# Altium schematic symbol library LimeMicroAltiumLib.SchLib: 659 symbols (part 18 of 22)
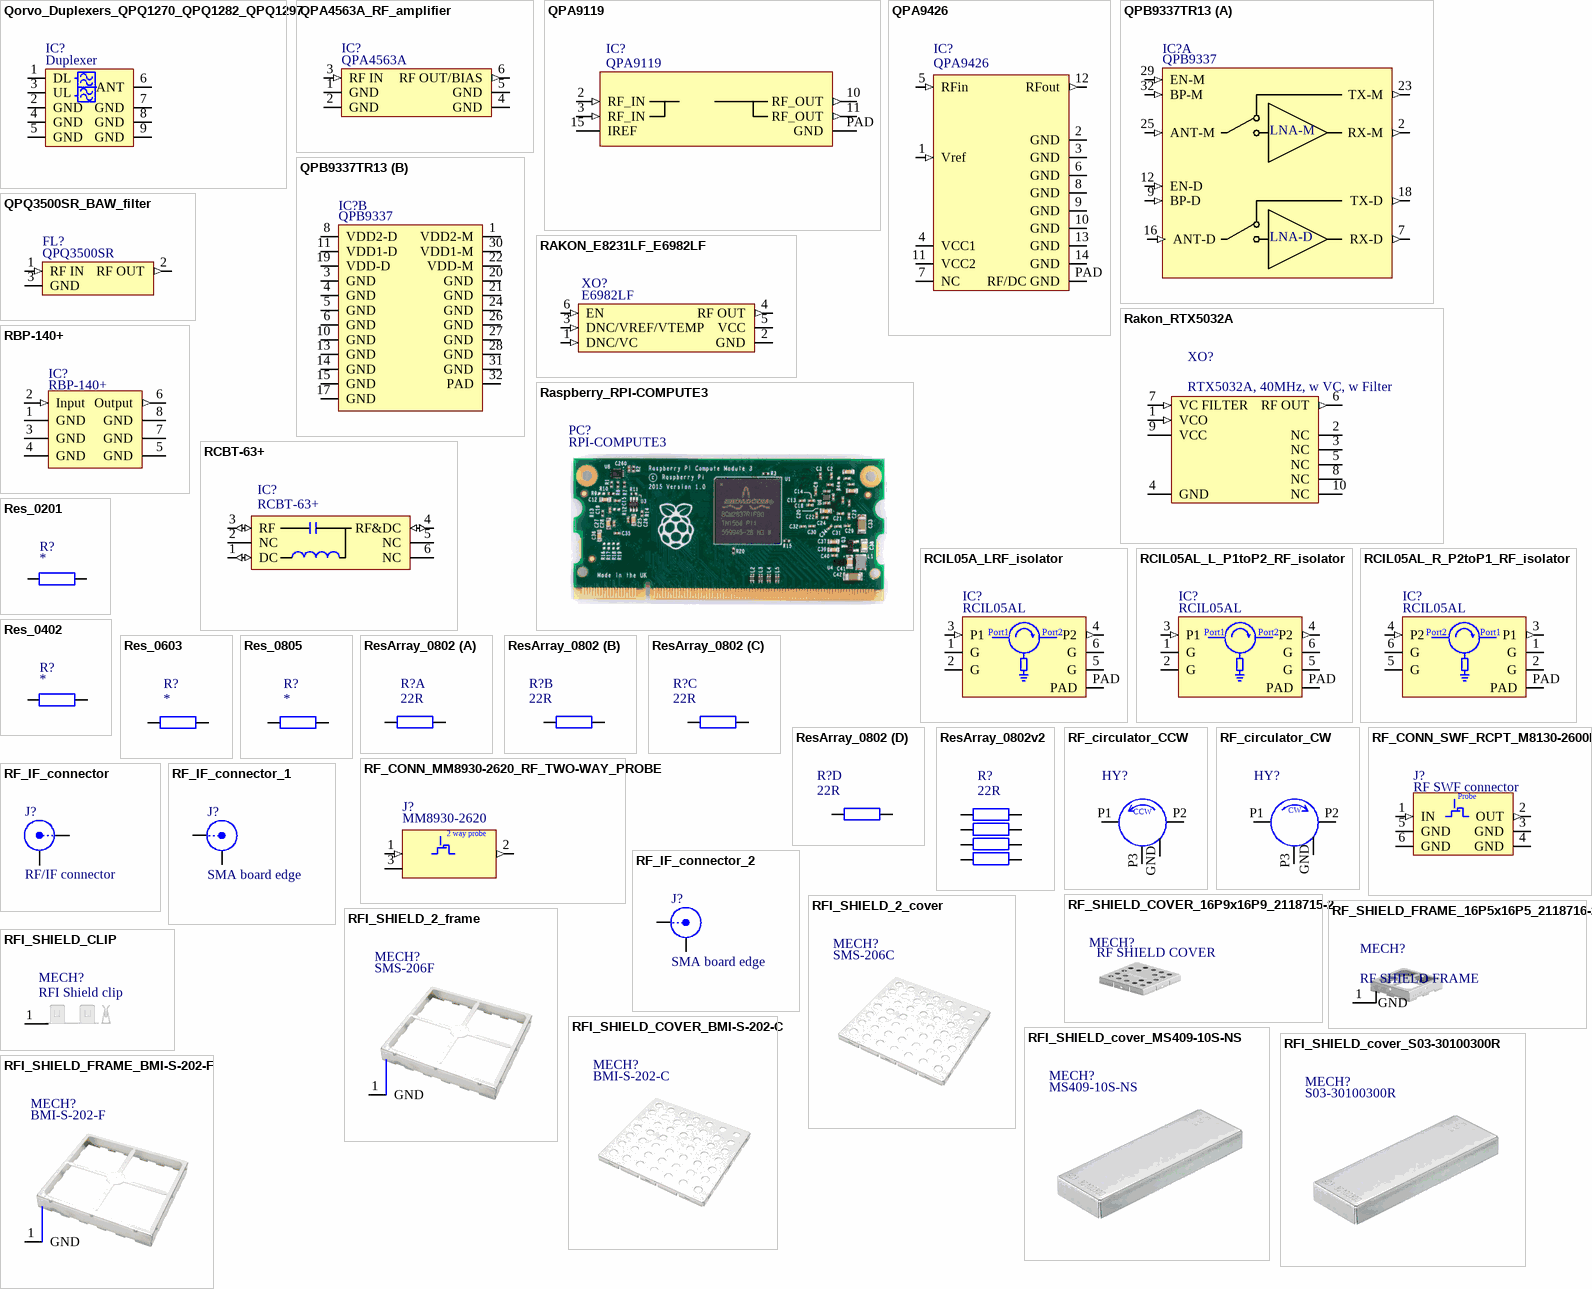
[diagram p95: symbols Qorvo_Duplexers_QPQ1270_QPQ1282_QPQ1297 to RFI_SHIELD_FRAME_BMI-S-202-F]

## RFI_SHIELD_CLIP
designator MECH?, comment RFI Shield clip
Manufacturer Part Number 1: S0971-46R; Manufacturer: HARWIN; Part Description: RFI SHIELD CLIP MINI TIN SMD; SVHC: No SVHC (15-Jun-2015); Supplier 1: Farnell; Supplier: Farnell; Length: 5.8; Clip Type: RFI Shield Clip; Clip Diameter: -; Product Range: -; Mounting Hole Dia: -; RoHS: YES; Supplier Part Number 1: 2361677
footprint RFI_SHIELD_CLPS_MINI (RFI SHIELD CLIP MINI TIN SMD, S0971-46R)
pins: 1 GND

## RFI_SHIELD_COVER_BMI-S-202-C
designator MECH?, comment BMI-S-202-C
Part Description: RF Shield Cover 0.668" (16.96mm) X 0.668" (16.96mm) Vent Holes in Pattern Snap Fit; Manufacturer: Laird; ComponentLink1URL: https://www.leadertechinc.com/assets/files/EngineeringDrawings/SMS-206.PDF; ComponentLink1Description: https://www.leadertechinc.com/assets/files/EngineeringDrawings/SMS-206.PDF; Supplier 1: Digi-Key; Supplier Part Number 1: 903-1014-ND; Manufacturer Part Number 1: BMI-S-202-C; Stock 1: 245970; Pricing 1: 1=1,68000, 10=1,51300, 25=1,42760, 100=1,21620, 250=1,14200, 500=0,99924, 1000=0,82795, 2500=0,77085, 5000=0,74230 (USD); RoHS: Yes; Color: Grey; Material: Aluminium; Package Quantity: 1400; Packaging: Bulk; Series: SMT 2 Piece; Length: 16.5mm; Width: 16.5mm; Depth: 3.6mm; ComponentLink2URL: http://www.farnell.com/datasheets/1965028.pdf?src-supplier=Farnell; ComponentLink2Description: http://www.farnell.com/datasheets/1965028.pdf?src-supplier=Farnell; ComponentLink3URL: http://www.mouser.com/ds/2/223/Laird_BMIS_201_210-201562.pdf?src-supplier=Mouser; ComponentLink3Description: http://www.mouser.com/ds/2/223/Laird_BMIS_201_210-201562.pdf?src-supplier=Mouser; ComponentLink4URL: http://www.farnell.com/datasheets/1965028.pdf?src-supplier=Newark; ComponentLink4Description: http://www.farnell.com/datasheets/1965028.pdf?src-supplier=Newark; ComponentLink5URL: http://www.farnell.com/datasheets/1965028.pdf?src-supplier=Element14; ComponentLink5Description: http://www.farnell.com/datasheets/1965028.pdf?src-supplier=Element14; ComponentLink6URL: http://assets.lairdtech.com/home/brandworld/files/Board%20Level%20Shields%20Catalog%20Download.pdf?src-supplier=Digi-Key; ComponentLink6Description: http://assets.lairdtech.com/home/brandworld/files/Board%20Level%20Shields%20Catalog%20Download.pdf?src-supplier=Digi-Key; ComponentLink7URL: http://assets.lairdtech.com/home/brandworld/files/Board%20Level%20Shields%20Catalog%20Download.pdf?src-supplier=Quest; ComponentLink7Description: http://assets.lairdtech.com/home/brandworld/files/Board%20Level%20Shields%20Catalog%20Download.pdf?src-supplier=Quest
footprint BMI-S-202-C_RF_SHIELD_COVER

## RFI_SHIELD_cover_MS409-10S-NS
designator MECH?, comment MS409-10S-NS
Part Description: RF Shield Shield, 1-Piece 0.846" (21.50mm) X 1.610" (40.90mm) Non-Vented Surface Mount; Manufacturer: Masach Tech; Manufacturer Lifecycle Status: ACTIVE; Date Code: 2020+; ComponentLink1URL: https://www.leadertechinc.com/assets/files/EngineeringDrawings/SMS-206.PDF; ComponentLink1Description: https://www.leadertechinc.com/assets/files/EngineeringDrawings/SMS-206.PDF; Supplier 1: DigiKey; Supplier Part Number 1: 2333-MS409-10S-NS-ND; Manufacturer Part Number 1: MS409-10S-NS; Stock 1: 337; Pricing 1: 1=2,04, 10=1,503, 42=1,30833, 126=1,20381, 252=1,15274, 504=1,11063, 1008=1,076, 2520=1,03943, 5040=1,01739 (USD); Country of Origin: IL (Israel); Depth: 21.5mm; Export Control Classification Number (ECCN) Code: EAR99; Height: 2.5mm; Harmonized Tariff Schedule (HTS) Code: 73269099; Length: 40.9mm; Lifecycle Status: Production; Material: Nickel-Silver; Mount: Surface Mount; Package Quantity: 42; ComponentLink2URL: https://datasheet.octopart.com:443/MS409-10S-NS-Masach-Tech-datasheet-188963509.pdf?src-supplier=Masach+Tech; ComponentLink2Description: https://datasheet.octopart.com:443/MS409-10S-NS-Masach-Tech-datasheet-188963509.pdf?src-supplier=Masach+Tech; ComponentLink3URL: https://datasheet.octopart.com:443/MS409-10S-NS-Masach-Tech-datasheet-179222798.pdf?src-supplier=Masach+Tech; ComponentLink3Description: https://datasheet.octopart.com:443/MS409-10S-NS-Masach-Tech-datasheet-179222798.pdf?src-supplier=Masach+Tech; ComponentLink4URL: https://datasheet.octopart.com:443/MS409-10S-NS-Masach-Tech-datasheet-155532675.pdf?src-supplier=Masach+Tech; ComponentLink4Description: https://datasheet.octopart.com:443/MS409-10S-NS-Masach-Tech-datasheet-155532675.pdf?src-supplier=Masach+Tech
footprint MS409-10S-NS_RF_SHIELD_COVER

## RFI_SHIELD_cover_S03-30100300R
designator MECH?, comment S03-30100300R
Part Description: RF Shield CAN 0.394" (10.00mm) X 1.181" (30.00mm) Non-Vented Surface Mount; Manufacturer: Harwin; ComponentLink1URL: https://www.leadertechinc.com/assets/files/EngineeringDrawings/SMS-206.PDF; ComponentLink1Description: https://www.leadertechinc.com/assets/files/EngineeringDrawings/SMS-206.PDF; Supplier 1: Digi-Key; Supplier Part Number 1: 952-S03-30100300RCT-ND; Manufacturer Part Number 1: S03-30100300R; Stock 1: 6493; Pricing 1: 1=1,30000, 10=1,15900, 25=1,10040, 100=0,90390, 250=0,84496 (USD); RoHS: No
footprint SHIELD_S03-30100300R (RF Shield CAN 0.394" (10.00mm) X 1.181" (30.00mm) Non-Vented Surface Mount)

## RFI_SHIELD_FRAME_BMI-S-202-F
designator MECH?, comment BMI-S-202-F
Part Description: RF Shield Frame 0.650" (16.50mm) X 0.650" (16.50mm) Surface Mount; Manufacturer: Laird; ComponentLink1URL: https://www.leadertechinc.com/assets/files/EngineeringDrawings/SMS-206.PDF; ComponentLink1Description: https://www.leadertechinc.com/assets/files/EngineeringDrawings/SMS-206.PDF; Supplier 1: Digi-Key; Supplier Part Number 1: 903-1051-1-ND; Manufacturer Part Number 1: BMI-S-202-F; Stock 1: 239502; Pricing 1: 1=1,94000, 10=1,74100, 25=1,64280, 100=1,39970, 250=1,31428 (USD); RoHS: Yes; Mount: Solder; Material: Aluminium; Color: Grey; Package Quantity: 700; Packaging: Tape and Reel; Length: 16.5mm; Width: 16.5mm; Depth: 3.6mm; Reach SVHC Compliant: Unknown; ComponentLink2URL: https://datasheet.ciiva.com/2799/bmi-s-202-2799404.pdf?src-supplier=Digi-Key; ComponentLink2Description: https://datasheet.ciiva.com/2799/bmi-s-202-2799404.pdf?src-supplier=Digi-Key
footprint BMI-S-202-F_RF_SHIELD_FRAME
pins: 1 GND

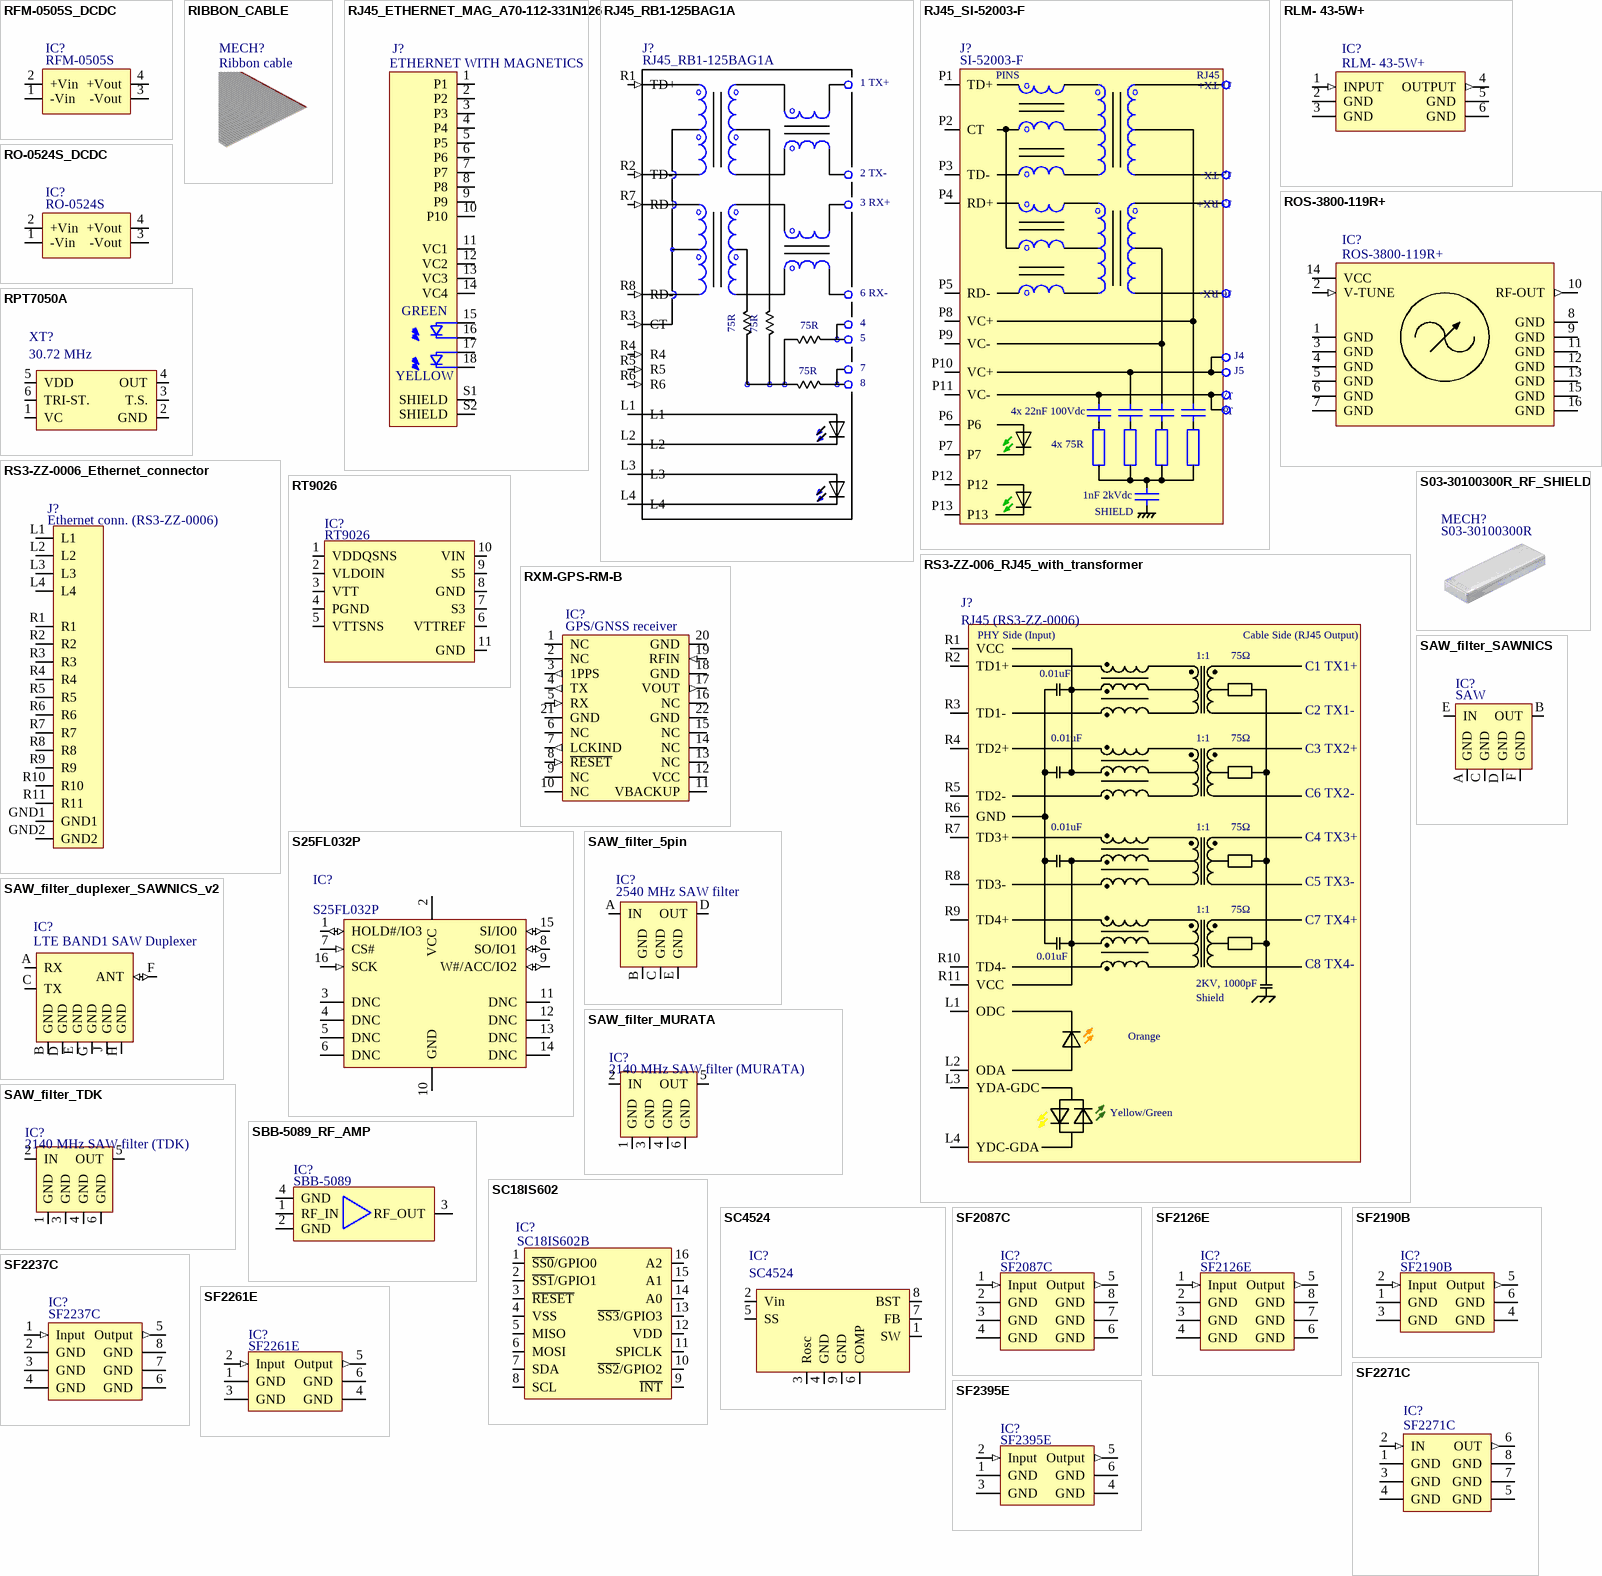
[diagram p65: symbols RFM-0505S_DCDC to SF2395E]

## RFM-0505S_DCDC
designator IC?, comment RFM-0505S
Part Description: Isolated Module DC DC Converter 1 Output 5V    200mA  - 5V Input; Manufacturer: Recom; Max Output Voltage: 5V; ComponentLink1URL: https://datasheet.ciiva.com/11836/0900766b80d62039-11836901.pdf?src-supplier=RSComponents; ComponentLink1Description: https://datasheet.ciiva.com/11836/0900766b80d62039-11836901.pdf?src-supplier=RSComponents; ComponentLink2URL: https://datasheet.ciiva.com/2172/ro-2172489.pdf?src-supplier=Digi-Key; ComponentLink2Description: https://datasheet.ciiva.com/2172/ro-2172489.pdf?src-supplier=Digi-Key; ComponentLink3URL: https://datasheet.ciiva.com/16483/ro-16483065.pdf?src-supplier=Future+Electronics; ComponentLink3Description: https://datasheet.ciiva.com/16483/ro-16483065.pdf?src-supplier=Future+Electronics; ComponentLink4URL: https://datasheet.ciiva.com/8072/ro-8072364.pdf?src-supplier=Element14; ComponentLink4Description: https://datasheet.ciiva.com/8072/ro-8072364.pdf?src-supplier=Element14; Supplier 1: Digi-Key; Manufacturer Part Number 1: RFM-0505S; Stock 1: 11282; Pricing 1: 1=1,40000, 5=1,38000, 10=1,36000, 42=1,32000, 84=1,28000, 126=1,24000, 252=1,20000, 504=1,12000 (USD); RoHS: No; Weight: 1.4g; Length: 11.5mm; Height: 10mm; Width: 6mm; ComponentLink5URL: https://www.recom-power.com/pdf/Econoline/RFM.pdf?src-supplier=Digi-Key; ComponentLink5Description: https://www.recom-power.com/pdf/Econoline/RFM.pdf?src-supplier=Digi-Key; Supplier Part Number 1: 945-3159-ND
footprint RFM-0505S_4SIP (24V 1W DCDC converter module)
pins: 1 -Vin, 2 +Vin, 3 -Vout, 4 +Vout

## RIBBON_CABLE
designator MECH?, comment Ribbon cable  (mechanical)
Manufacturer: 3M; Part Description: Flat Ribbon Cable Gray 40 Conductors 0.050" (1.27mm) Flat Cable 1.00' (304.80mm); Conductor Material: Copper; Wire/Cable Type: Flat,Round; Number of Conductors: 40; Voltage Rating: 300V; Shielding: Unshielded; Impedance: 172R; Wire/Cable Gauge: 28AWG; Pitch: 0.05inch; Cable Length: 91.44m; Cable Pitch: 1.27mm; Supplier 1: Digikey; Manufacturer Part Number 1: 3365/40-300; Stock 1: 20; Pricing 1: 1 = 7,24000, 5 = 5,99200, 10 = 5,52400, 25 = 4,95760, 50 = 4,56720, 100 = 4,19630 (USD); Mount: Cable; Case/Package: 300; Weight: 16.3lb; Color: Grey,Red; Contact Plating: Tin; Insulation Material: Polyvinyl; Min Operating Temperature: -20°C; Max Operating Temperature: 105°C; Packaging: Roll; Length: 300foot; Depth: 50.8mm; ComponentLink1URL: http://multimedia.3m.com/mws/media/22052O/3mtm-round-conductor-flat-cable-050in-3365-series-ts0080.pdf; ComponentLink1Description: http://multimedia.3m.com/mws/media/22052O/3mtm-round-conductor-flat-cable-050in-3365-series-ts0080.pdf; ComponentLink2URL: http://datasheet.octopart.com/3365/40-300-3M-datasheet-155274.pdf; ComponentLink2Description: http://datasheet.octopart.com/3365/40-300-3M-datasheet-155274.pdf; ComponentLink3URL: http://datasheet.octopart.com/3365/40-300-3M-datasheet-8453687.pdf; ComponentLink3Description: http://datasheet.octopart.com/3365/40-300-3M-datasheet-8453687.pdf; Supplier Part Number 1: 3M157807-5-ND

## RJ45_ETHERNET_MAG_A70-112-331N126
designator J?, comment ETHERNET WITH MAGNETICS
MagJack A70-112-331N126 or LINK-PP LPJG0926HENL; Part Description: A70-112-331N126 Tab Down Ethernet Magnetic RJ45 Connector LPJG0926HENL With POE +; Manufacturer Part Number 1: LPJG0926HENL; Supplier Part Number 1: LPJG0926HENL; Supplier: Link-PP; Manufacturer: Link-PP
footprint RJ45_ETHERNET_MAG_A70-112-331N126
pins: 1 P1, 2 P2, 3 P3, 4 P4, 5 P5, 6 P6, 7 P7, 8 P8, 9 P9, 10 P10, 11 VC1, 12 VC2, 13 VC3, 14 VC4, 15 G_A, 16 G_K, 17 Y_A, 18 Y_K, S1 SHIELD, S2 SHIELD
text: GREEN; YELLOW

## RJ45_RB1-125BAG1A
designator J?
Part Description: 1 Port RJ45 Magjack Connector Through Hole 10/100 Base-T, AutoMDIX; Manufacturer: WIZnet; Connector Type: RJ45; LED Color: Green - Yellow; Number of Cores per Jack: 4; Shielding: Shielded, EMI Finger; Tab Direction: Down; Shield Material: Stainless Steel; Supplier 1: Digi-Key; Manufacturer Part Number 1: RB1-125BAG1A; RoHS: RoHS Compliant; Category: Connectors, Interconnects; Stock 1: 12683; Pricing 1: 1=2.55, 10=2.448, 25=2.244, 50=2.142, 100=2.04, 250=1.785, 500=1.734, 1000=1.56 (USD); Packaging: Bulk; Part Status: Active; Applications: 10/100 Base-T, AutoMDIX; Mounting Type: Through Hole; Orientation: 90° Angle (Right); Termination: Solder; Height Above Board: 0.525" (13.33mm); Features: Board Lock; Contact Material: Phosphor Bronze; Contact Finish: Gold; Operating Temperature: 0°C ~ 70°C; Contact Finish Thickness: Flash; Housing Material: Thermoplastic; ComponentLink1URL: http://www.shopwiznet.com/lanotattachments/download/file/id/95/store/1/; ComponentLink1Description: http://www.shopwiznet.com/lanotattachments/download/file/id/95/store/1/; Supplier Part Number 1: 1278-1011-ND
footprint RBP-140+ (saw filter, case style GP731)
pins: L1, L2, L3, L4, R1 TD+ (in), R2 TD- (in), R3 CT (in), R4 (in), R5 (in), R6 (in), R7 RD+ (in), R8 RD- (in)
text: 1 TX+; 2 TX-; 3 RX+; 6 RX-; 75R; 5; 7; 8

## RJ45_SI-52003-F
designator J?, comment SI-52003-F
Part Description: 1 Port RJ45 Magjack Connector Through Hole 10/100 Base-T, AutoMDIX, Power over Ethernet (PoE); Manufacturer: Stewart Connector; Connector Type: RJ45; LED Color: Green - Green; Number of Cores per Jack: 4; Shielding: Shielded, EMI Finger; Tab Direction: Up; Shield Material: Copper Alloy; Supplier 1: Digi-Key; Manufacturer Part Number 1: SI-52003-F; RoHS: RoHS Compliant; Category: Connectors, Interconnects; Stock 1: 11085; Pricing 1: 1=5.33, 10=5.112, 25=4.686, 50=4.473, 100=4.26, 250=3.72752, 500=3.621, 1000=3.0885, 2500=2.8755 (USD); Packaging: Tray; Part Status: Active; Applications: 10/100 Base-T, AutoMDIX, Power over Ethernet (PoE); Mounting Type: Through Hole; Orientation: 90° Angle (Right); Termination: Solder; Height Above Board: 0.550" (13.97mm); Features: Board Guide; Contact Material: Copper Alloy; Contact Finish: Gold; Operating Temperature: -; Contact Finish Thickness: 50.0µin (1.27µm); Housing Material: Thermoplastic; ComponentLink1URL: https://belfuse.com/resources/StewartConnector/SI-52003-F.pdf; ComponentLink1Description: https://belfuse.com/resources/StewartConnector/SI-52003-F.pdf; Supplier Part Number 1: 380-1119-ND
footprint RJ45_SI-52003-F
pins: P1 TD+, P2 CT, P3 TD-, P4 RD+, P5 RD-, P6, P7, P8 VC+, P9 VC-, P10 VC+, P11 VC-, P12, P13
text: J1 TX+; PINS; J2 TX-; J3 RX+; J6 RX-; J4; J5; J7; J8; 4x 22nF 100Vdc; 4x 75R; 1nF 2kVdc; SHIELD

## RLM- 43-5W+
designator IC?
Limiter: 50Ω, Broadband, 20 to 4000 MHz; Manufacturer: Mini-Circuits; Supplier Part Number 1: RLC-43-5W+; Supplier 1: Mini-Circuits; Part Description: Limiter: 50Ω, Broadband, 20 to 4000 MHz; Manufacturer Part Number 1: RLM-43-5W+
footprint RLM-43-5W_TT1224
pins: 1 INPUT (in), 2 GND, 3 GND, 4 OUTPUT (out), 5 GND, 6 GND

## RO-0524S_DCDC
designator IC?, comment RO-0524S
Manufacturer: Recom; Part Description: Isolated Module DC DC Converter 1 Output 24V    42mA 4.5V - 5.5V Input; Max Output Current: 42mA; Efficiency: 85%; Min Input Voltage: 4.5V; Output Voltage: 24V; Power Rating: 1W; Number of Outputs: 1; Max Input Voltage: 5.5V; Nominal Input Voltage: 5V; Isolation Voltage: 1kV; Isolation: Isolated; Supplier 1: Digi-Key; Manufacturer Part Number 1: RO-0524S; Stock 1: 1345; Pricing 1: 1=5,37000, 5=5,29600, 10=5,21900, 42=5,06548, 84=4,91202, 126=4,75849, 252=4,60500, 504=4,29800 (USD); RoHS: Yes; Mount: Through Hole; Case/Package: SIP; Number of Pins: 4; Weight: 1.4g; Min Operating Temperature: -40°C; Max Operating Temperature: 85°C; Output Current: 42mA; Package Quantity: 42; Packaging: Rail/Tube; Output Power: 1W; Nominal Output Voltage: 24V; Min Input Voltage (DC): 4.5V; Max Input Voltage (DC): 5.5V; Voltage - Output 1: 24V; Current - Output 1: 42mA; Max Output Power: 1W; Max Power Dissipation: 1W; Max Output Voltage: 24V; Features: SCP; Length: 11.5mm; Height: 10mm; Width: 6mm; Depth: 11.5mm; REACH SVHC: No SVHC; Lead Free: Lead Free; ComponentLink1URL: https://datasheet.ciiva.com/11836/0900766b80d62039-11836901.pdf?src-supplier=RSComponents; ComponentLink1Description: https://datasheet.ciiva.com/11836/0900766b80d62039-11836901.pdf?src-supplier=RSComponents; ComponentLink2URL: https://datasheet.ciiva.com/2172/ro-2172489.pdf?src-supplier=Digi-Key; ComponentLink2Description: https://datasheet.ciiva.com/2172/ro-2172489.pdf?src-supplier=Digi-Key; ComponentLink3URL: https://datasheet.ciiva.com/16483/ro-16483065.pdf?src-supplier=Future+Electronics; ComponentLink3Description: https://datasheet.ciiva.com/16483/ro-16483065.pdf?src-supplier=Future+Electronics; ComponentLink4URL: https://datasheet.ciiva.com/8072/ro-8072364.pdf?src-supplier=Element14; ComponentLink4Description: https://datasheet.ciiva.com/8072/ro-8072364.pdf?src-supplier=Element14; Supplier Part Number 1: 945-1523-5-ND
footprint RO-0524S_4SIP (24V 1W DCDC converter module)
pins: 1 -Vin, 2 +Vin, 3 -Vout, 4 +Vout

## ROS-3800-119R+
designator IC?
Voltage Controlled Oscillator 50Ω 1900 to 3700 MHz; Manufacturer: Mini-Circuits; Part Description: Voltage Controlled Oscillator 50Ω 1900 to 3700 MHz; Manufacturer Part Number 1: ROS-3800-119R+; Supplier 1: Mini-Circuits; Supplier Part Number 1: ROS-3800-119R+
footprint ROS-3000-119R+_CK605
pins: 1 GND, 2 V-TUNE (in), 3 GND, 4 GND, 5 GND, 6 GND, 7 GND, 8 GND, 9 GND, 10 RF-OUT (out), 11 GND, 12 GND, 13 GND, 14 VCC (power), 15 GND, 16 GND

## RPT7050A
designator XT?, comment 30.72 MHz
Manufacturer Part Number 1: E6245LF
footprint RPT7050A (Rakon's Pluto+ ASIC)
pins: 1 VC, 2 GND, 3 T.S., 4 OUT, 5 VDD, 6 TRI-ST.

## RS3-ZZ-0006_Ethernet_connector
designator J?, comment Ethernet conn. (RS3-ZZ-0006)
Part Description: RJ45 1X1 Tab Up, T/H, Slim, Sink, 10/100/1000 Base-T, Contact Area : Gold Flash, LED: L-Green/Yellow; R-Orange; Manufacturer: UDE corp; Manufacturer Part Number 1: RS3-ZZ-0006; Supplier 1: UDE corp.; Supplier Part Number 1: RS3-ZZ-0006
footprint RS3-ZZ-0006_Ethernet_connector
pins: GND1, GND2, L1, L2, L3, L4, R1, R2, R3, R4, R5, R6, R7, R8, R9, R10, R11

## RS3-ZZ-006_RJ45_with_transformer
designator J?, comment RJ45 (RS3-ZZ-0006)
Manufacturer: UDE; Part Description: RJ45 ethernet connector with transformer and LEDs; Manufacturer Part Number 1: RS3-ZZ-0006; Supplier 1: UDE; Supplier Part Number 1: RS3-ZZ-0006
footprint RS3-ZZ-0006_Ethernet_connector_via_datasheet (Footprint created according to the datasheet)
pins: L1 ODC, L2 ODA, L3 YDA-GDC, L4 YDC-GDA, R1 VCC, R2 TD1+, R3 TD1-, R4 TD2+, R5 TD2-, R6 GND, R7 TD3+, R8 TD3-, R9 TD4+, R10 TD4-, R11 VCC
text: PHY Side (Input); Cable Side (RJ45 Output); 1:1; 75Ω; C1 TX1+; 0.01uF; C2 TX1-; C3 TX2+; C6 TX2-; C4 TX3+; C5 TX3-; C7 TX4+; C8 TX4-; 2KV, 1000pF; Shield; Orange; Yellow/Green

## RT9026
designator IC?
footprint MSOP10
pins: 1 VDDQSNS, 2 VLDOIN, 3 VTT, 4 PGND, 5 VTTSNS, 6 VTTREF, 7 S3, 8 GND, 9 S5, 10 VIN, 11 GND

## RXM-GPS-RM-B
designator IC?, comment GPS/GNSS receiver
Manufacturer: Linx; Manufacturer Part Number 1: RXM-GPS-RM-B; Part Description: RM RF Receiver GPS 1575.42MHz -161dB   Module; Current - Receiving: 12mA; Frequency: 1.57542GHz; Interface: Serial; Number of Channels: 66; Operating Supply Voltage: 4.3V; Sensitivity: -160dBm; Case/Package: Module; Lead Free: Lead Free; Max Operating Temperature: 85°C; Min Operating Temperature: -40°C; Operating Supply Current: 12mA; Package Quantity: 100; Packaging: Cut Strip; Supplier 1: Digi-Key; Supplier Part Number 1: RXM-GPS-RM-B-ND
footprint RXM-GPS-RM-B (Linx GPS/GNSS receiver RM series)
pins: 1 NC, 2 NC, 3 1PPS (out), 4 TX (out), 5 RX (in), 6 NC, 7 LCKIND (out), 8 ~{RESET} (in), 9 NC, 10 NC, 11 VBACKUP (power), 12 VCC (power), 13 NC, 14 NC, 15 NC, 16 NC, 17 VOUT (out), 18 GND, 19 RFIN (in), 20 GND, 21 GND, 22 GND

## S03-30100300R_RF_SHIELD
designator MECH?, comment S03-30100300R
Part Description: RF Shield CAN 0.394" (10.00mm) X 1.181" (30.00mm) Non-Vented Surface Mount; Manufacturer: Harwin; Supplier 1: Digikey; Supplier Part Number 1: 952-S03-30100300RCT-ND; Manufacturer Part Number 1: S03-30100300R; Stock 1: 1392; Pricing 1: 1=2,15, 10=1,344, 25=1,1328, 100=0,8933, 250=0,77572 (USD); RoHS: No; Mount: Surface Mount; Series: EZ BoardWare
footprint S03-30100300R_RF_SHIELD

## S25FL032P
designator IC?
Manufacturer Part Number 1: S25FL032P0XMFI001; Manufacturer: Spansion; Speed: 104MHz; Interface: SPI Serial; Memory Size: 32M (4M x 8); Format - Memory: FLASH; Memory Type: FLASH - NOR; Voltage - Supply: 2.7 V ~ 3.6 V; Package / Case: 16-SOIC (0.295", 7.50mm Width); Supplier Device Package: 16-SOIC; Operating Temperature: -40°C ~ 85°C; RoHS: RoHS Compliant; Category: Integrated Circuits (ICs); Packaging: Tube; Supplier 1: Digi-Key; Supplier Part Number 1: S25FL032P0XMFI001-ND
footprint SOIC16_WIDE (SOIC, 1.27mm pitch, 16 pin)
pins: 1 HOLD#/IO3 (io), 2 VCC (power), 3 DNC, 4 DNC, 5 DNC, 6 DNC, 7 CS# (in), 8 SO/IO1 (io), 9 W#/ACC/IO2 (io), 10 GND, 11 DNC, 12 DNC, 13 DNC, 14 DNC, 15 SI/IO0 (io), 16 SCK (in)

## SAW_filter_5pin
designator IC?, comment 2540 MHz SAW filter
Supplier Part Number 1: *; Manufacturer Part Number 1: *; Supplier 1: *
footprint SAW_filter_5pin
pins: A IN (in), B GND, C GND, D OUT (out), E GND

## SAW_filter_duplexer_SAWNICS_v2
designator IC?, comment LTE BAND1 SAW Duplexer
Manufacturer Part Number 1: SD-2140T2-C45R; Manufacturer: Sawnics; Part Description: Band 1 SAW duplexer, SMD; Supplier Part Number 1: SD-2140T2-C45R; Supplier 1: Sawnics
footprint SAW_filter_duplexer_SAWNICS_v2
pins: A RX (out), B GND, C TX (in), D GND, E GND, F ANT (io), G GND, H GND, J GND

## SAW_filter_MURATA
designator IC?, comment 2140 MHz SAW filter (MURATA)
Manufacturer Part Number 1: SF2225E; Supplier Part Number 1: SF2225E; Supplier 1: Murata
footprint SAW_filter_MURATA
pins: 1 GND, 2 IN, 3 GND, 4 GND, 5 OUT, 6 GND

## SAW_filter_SAWNICS
designator IC?, comment SAW
Manufacturer Part Number 1: SF2225E; Supplier Part Number 1: SF2225E; Supplier 1: Murata
footprint SAW_filter_SAWNICS
pins: A GND, B OUT (out), C GND, D GND, E IN (in), F GND

## SAW_filter_TDK
designator IC?, comment 2140 MHz SAW filter (TDK)
Manufacturer: EPCOS (TDK); Manufacturer Part Number 1: B39212B3669U410; Filter Type: Band Pass; Bandwidth: 60MHz; Insertion Loss: 3dB; Frequency: 2.14GHz Center; Supplier 1: Digi-Key; Packaging: Tape & Reel (TR); Size / Dimension: 0.118" L x 0.118" W (3.00mm x 3.00mm); Height (Max): 0.043" (1.10mm); RoHS: RoHS Compliant; Mounting Type: Surface Mount; Package / Case: 6-SMD, No Lead; Applications: UMTS; Category: Filters; Supplier Part Number 1: B39212B3669U410-ND
footprint SAW_filter_MURATA
pins: 1 GND, 2 IN, 3 GND, 4 GND, 5 OUT, 6 GND

## SBB-5089_RF_AMP
designator IC?, comment SBB-5089
Part Description: RF Amplifier .05-6GHz SSG 20.5dB NF 3.9dB; Manufacturer: Qorvo; Manufacturer Part Number 1: SBB5089Z; Supplier 1: Mouser; Supplier Part Number 1: 772-SBB5089Z; Stock 1: 59301; Pricing 1: 1=4,83000, 10=4,83000, 50=3,70000, 100=2,89000, 1000=2,89000, 10000=2,89000 (USD); RoHS: No
footprint SBB-5089_RF_AMP_SOT89
pins: 1 RF_IN, 2 GND, 3 RF_OUT, 4 GND

## SC18IS602
designator IC?, comment SC18IS602B
Manufacturer Part Number: SC18IS602BIPW,128; Manufacturer: NXP Semiconductors; Current - Supply: 11mA; Protocol: I²C; Interface: SPI; Function: Controller; Voltage - Supply: 2.4 V ~ 3.6 V; Supplier 1: Digi-Key; Standards: -; Supplier Device Package: 16-TSSOP; Package / Case: 16-TSSOP (0.173", 4.40mm Width); RoHS: RoHS Compliant; Packaging: Tape & Reel (TR); Category: Integrated Circuits (ICs); Operating Temperature: -40°C ~ 85°C; Supplier Part Number 1: 568-10300-2-ND
footprint SC18IS602B_TSSOP16
pins: 1 ~{SS0}/GPIO0, 2 ~{SS1}/GPIO1, 3 ~{RES}~{ET}, 4 VSS (power), 5 MISO, 6 MOSI, 7 SDA, 8 SCL, 9 ~{INT}, 10 ~{SS2}/GPIO2, 11 SPICLK, 12 VDD (power), 13 ~{SS3}/GPIO3, 14 A0, 15 A1, 16 A2

## SC4524
designator IC?
Manufacturer: SEMTECH; Manufacturer Part Number 1: SC4524CSETRT; Input Voltage Max: 28; DC / DC Converter IC Case: SOIC; Switching Frequency: 1.56; Topology: Buck (Step Down); Supplier 1: Farnell; Supplier: Farnell; Supplier Part Number 1: 2369193
footprint SOIC127P600-8DL (8-Pin Small Outline Integrated Circuit 1.27 mm Pitch)
pins: 1 SW, 2 Vin, 3 Rosc, 4 GND, 5 SS, 6 COMP, 7 FB, 8 BST, 9 GND

## SF2087C
designator IC?
Part Description: 267.5 MHz SAW Filter; Manufacturer: Murata; Manufacturer Part Number 1: SF2087C; Supplier Part Number 1: SF2087C; Supplier 1: Murata
footprint SAW_SF2087C_5x5
pins: 1 Input (in), 2 GND, 3 GND, 4 GND, 5 Output (out), 6 GND, 7 GND, 8 GND

## SF2126E
designator IC?
Manufacturer: Murata Electronics North America; Part Description: Signal Conditioning 725MHz, Wimax RF SAW Filter; Frequency - Center: 725MHz; Bandwidth: 50MHz; Insertion Loss: 2.6dB; Supplier 1: Digi-Key; Manufacturer Part Number 1: SF2126E; RoHS: RoHS Compliant; Category: Filters; Stock 1: 231; Pricing 1: 1=2.28, 10=2.211, 25=1.6216, 50=1.5846, 100=1.5477, 250=1.40032 (USD); Packaging: Cut Tape (CT); Part Status: Active; Ratings: -; Applications: WiMax; Mounting Type: Surface Mount; Package / Case: 8-SMD, No Lead; Height (Max): 0.055" (1.40mm); Size / Dimension: 0.118" L x 0.118" W (3.00mm x 3.00mm); ComponentLink1URL: http://wireless.murata.com/RFM/data/sf2126e.pdf; ComponentLink1Description: http://wireless.murata.com/RFM/data/sf2126e.pdf; Supplier Part Number 1: 490-12136-1-ND
footprint SAW_SF2126E_3x3
pins: 1 Input (in), 2 GND, 3 GND, 4 GND, 5 Output (out), 6 GND, 7 GND, 8 GND

## SF2190B
designator IC?
Part Description: 138 MHz SAW Filter; Manufacturer: Murata; Manufacturer Part Number 1: SF2190B; Supplier Part Number 1: SF2190B; Supplier 1: Murata
pins: 1 GND, 2 Input (in), 3 GND, 4 GND, 5 Output (out), 6 GND

## SF2237C
designator IC?
Part Description: 515.0 MHz; 5 x 5 mm Surface-mount Package; Manufacturer: Murata; Supplier 1: Murata; Manufacturer Part Number 1: SF2237C; Supplier Part Number 1: SF2237C
footprint SAW_SF2237C_5x5
pins: 1 Input (in), 2 GND, 3 GND, 4 GND, 5 Output (out), 6 GND, 7 GND, 8 GND

## SF2261E
designator IC?
Part Description: 880 MHz Low-loss SAW Filter, 60 MHz Bandwidth; Manufacturer: Murata; Manufacturer Part Number 1: SF2261E; Supplier Part Number 1: SF2261E; Supplier 1: Murata
footprint SAW_filter_MURATA_3x3
pins: 1 GND, 2 Input (in), 3 GND, 4 GND, 5 Output (out), 6 GND

## SF2271C
designator IC?
Part Description: 460 MHz  SAW Filter; 5.0 x 5.0 mm Surface-mount Case; Direct 50 ohm Operation; Manufacturer: Murata; Supplier 1: Murata; Supplier Part Number 1: SF2271C; Manufacturer Part Number 1: SF2271C
footprint SAW_SF2271C_5x5
pins: 1 GND, 2 IN (in), 3 GND, 4 GND, 5 GND, 6 OUT (out), 7 GND, 8 GND

## SF2395E
designator IC?
Part Description: 1224 MHz SAW Filter; Manufacturer: Murata; Manufacturer Part Number 1: SF2395E; Supplier Part Number 1: SF2395E; Supplier 1: Murata
footprint SAW_filter_MURATA_3x3
pins: 1 GND, 2 Input (in), 3 GND, 4 GND, 5 Output (out), 6 GND

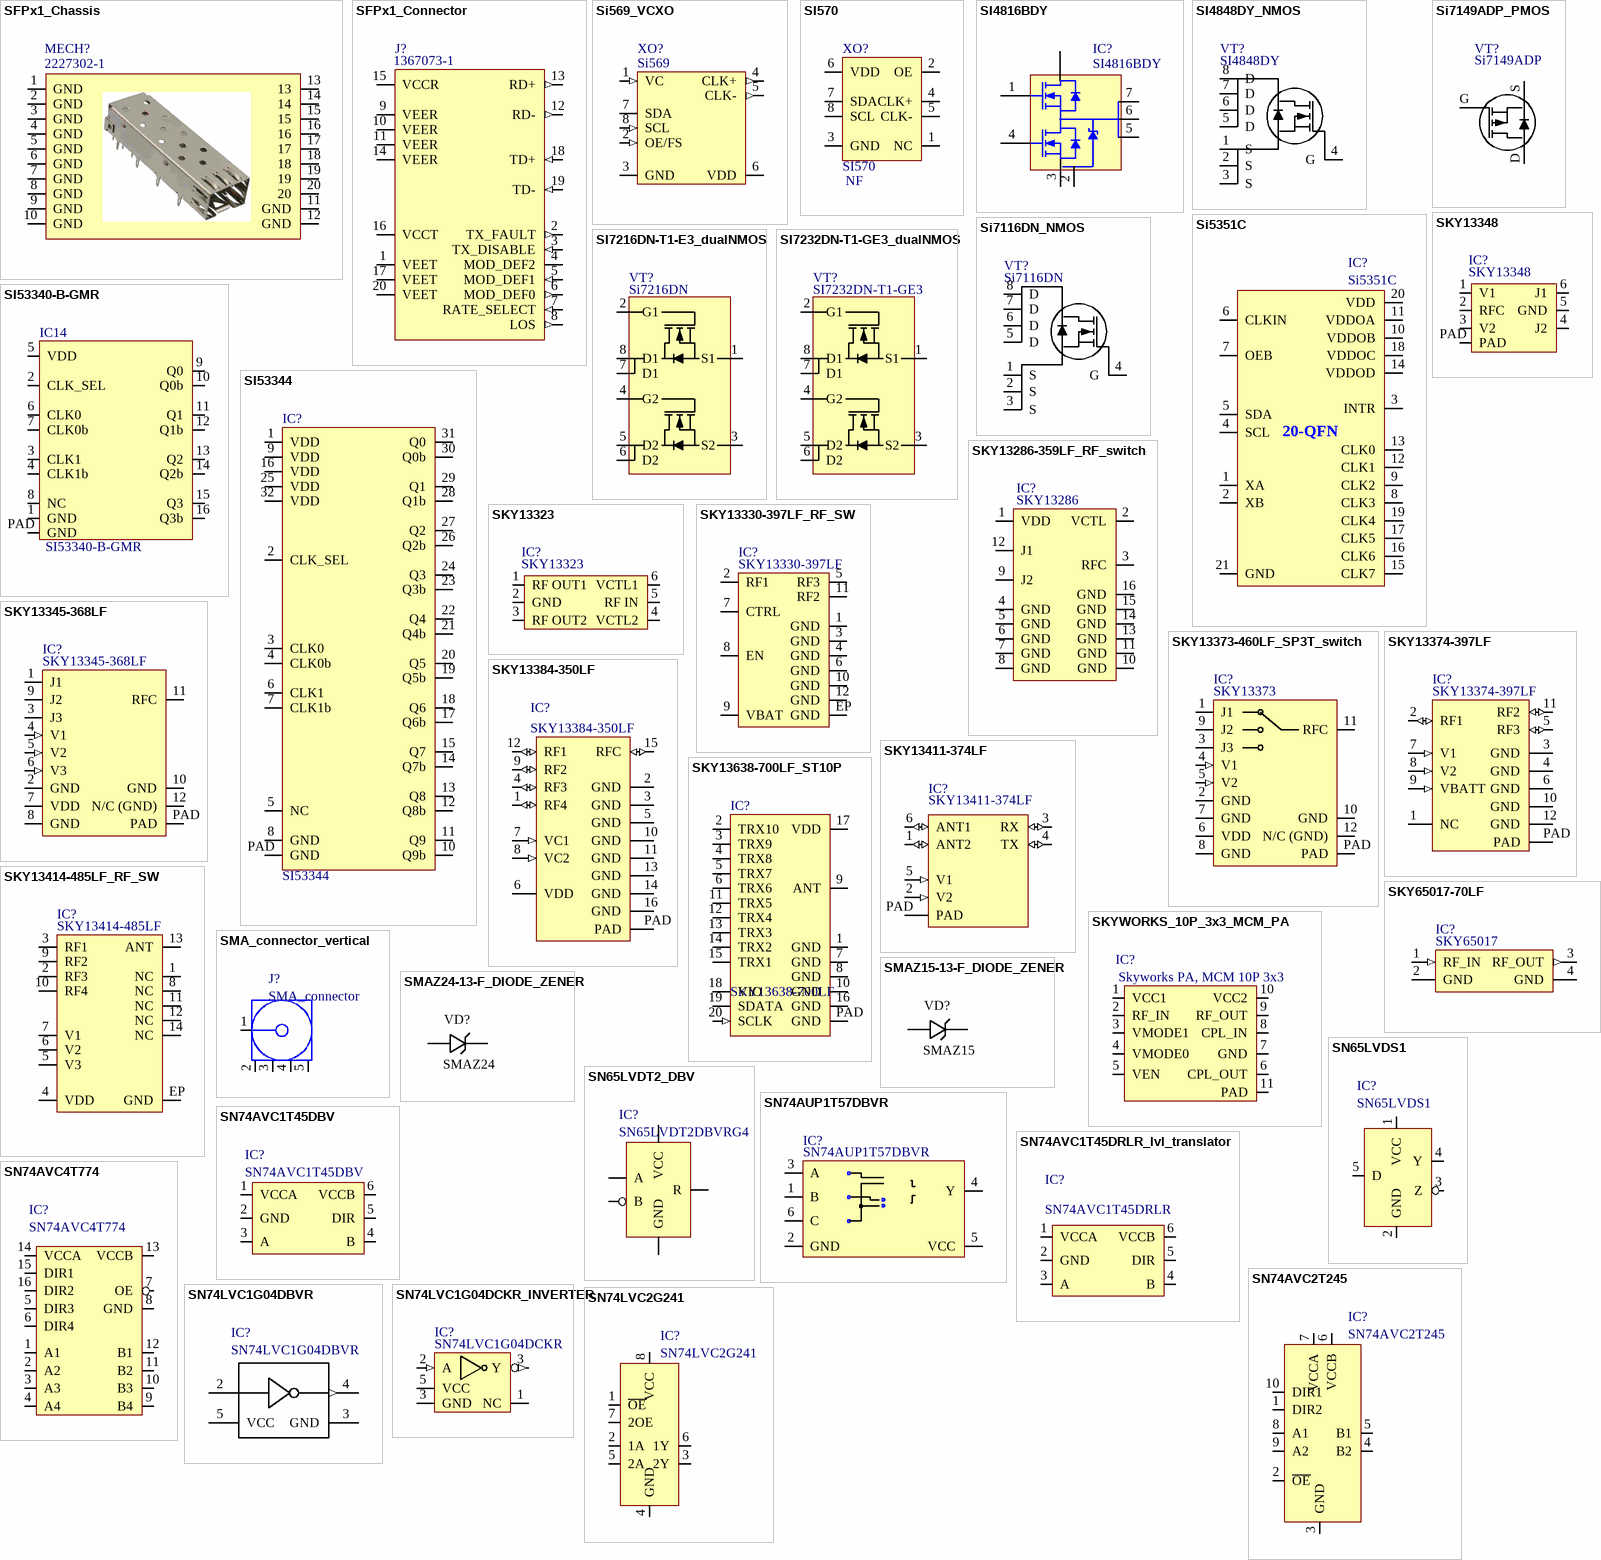
[diagram p66: symbols SFPx1_Chassis to SN74LVC2G241]

## SFPx1_Chassis
designator MECH?, comment 2227302-1
Part Description: - Position SFP Cage Connector Press-Fit Through Hole, Right Angle; Manufacturer: TE Connectivity AMP; Data Rate: 4Gbps; Number of Ports: 1; PCB Thickness: 0.059inch; Tail Length: 3mm; Supplier 1: Digi-Key; Supplier Part Number 1: A120616-ND; Manufacturer Part Number 1: 2227302-1; Stock 1: 16113; Pricing 1: 1=1,43000, 10=1,26100, 25=1,18720, 40=1,13750, 192=1,08813, 384=0,98922, 576=0,89030, 960=0,79138, 2496=0,71718 (USD); RoHS: Yes; Mount: Through Hole; Packaging: Tray; Termination: Press-Fit; Length: 14.5mm; ELV: Compliant; RoHS Compliant: Yes; ComponentLink1URL: https://datasheet.ciiva.com/45236/eng-cd-2227302-1-45236428.pdf?src-supplier=Avnet; ComponentLink1Description: https://datasheet.ciiva.com/45236/eng-cd-2227302-1-45236428.pdf?src-supplier=Avnet
footprint SFP_Chassis_22273021 (CONN SFP CAGE PRESS-FIT R/A)
pins: 1 GND, 2 GND, 3 GND, 4 GND, 5 GND, 6 GND, 7 GND, 8 GND, 9 GND, 10 GND, 11 GND, 12 GND, 13, 14, 15, 16, 17, 18, 19, 20

## SFPx1_Connector
designator J?, comment 1367073-1
Manufacturer: TE Connectivity; Part Description: 20 Position SFP Receptacle Connector Solder Surface Mount, Right Angle; Connector Type: Receptacle,SFP; Number of Ports: 1; Gender: Female; Number of Contacts: 20; Data Rate: 4Gbps; Max Voltage Rating (AC): 120V; Pitch: 0.8mm; Plating Thickness: 0.38um; Supplier 1: Digi-Key; Supplier Part Number 1: A97430CT-ND; Manufacturer Part Number 1: 1367073-1; Stock 1: 16529; Pricing 1: 1=1,77000, 10=1,60800, 25=1,51000, 50=1,44440, 100=1,37870 (USD); RoHS: Yes; Mount: Surface Mount; Contact Material: Bronze,Gold; Contact Plating: Gold; Material: Polymer,Liquid Crystal Polymer; Housing Material: Polymer; Color: Black; Housing Color: Black; Min Operating Temperature: -55°C; Max Operating Temperature: 85°C; Package Quantity: 480; Packaging: Tape and Reel; Termination: SMD/SMT; Orientation: Right Angle; Number of Positions: 20; Number of Positions Loaded: 20; Length: 11.2mm; Depth: 7.4mm; Radiation Hardening: No; Lead Free: Lead Free; ELV: Compliant; REACH SVHC: Unknown; Flammability Rating: UL94 V-0; ComponentLink1URL: https://datasheet.ciiva.com/689/eng-cd-1367073-k-689473.pdf?src-supplier=Digi-Key; ComponentLink1Description: https://datasheet.ciiva.com/689/eng-cd-1367073-k-689473.pdf?src-supplier=Digi-Key; ComponentLink2URL: https://datasheet.ciiva.com/26824/getdatasheetpartid-111150-26824248.pdf?src-supplier=Verical; ComponentLink2Description: https://datasheet.ciiva.com/26824/getdatasheetpartid-111150-26824248.pdf?src-supplier=Verical; ComponentLink3URL: https://datasheet.ciiva.com/16314/eng-cs-1773408-1-pluggable-ixo-solutions-sfp-0409-16314846.pdf?src-supplier=Future+Electronics; ComponentLink3Description: https://datasheet.ciiva.com/16314/eng-cs-1773408-1-pluggable-ixo-solutions-sfp-0409-16314846.pdf?src-supplier=Future+Electronics; ComponentLink4URL: https://datasheet.ciiva.com/14159/1367073-eng-tds-14159446.pdf?src-supplier=Distrelec; ComponentLink4Description: https://datasheet.ciiva.com/14159/1367073-eng-tds-14159446.pdf?src-supplier=Distrelec; ComponentLink5URL: https://datasheet.ciiva.com/11757/0900766b80db5732-11757313.pdf?src-supplier=RSComponents; ComponentLink5Description: https://datasheet.ciiva.com/11757/0900766b80db5732-11757313.pdf?src-supplier=RSComponents; ComponentLink6URL: https://datasheet.ciiva.com/1099/1509426-1099442.pdf?src-supplier=Newark; ComponentLink6Description: https://datasheet.ciiva.com/1099/1509426-1099442.pdf?src-supplier=Newark; ComponentLink7URL: https://datasheet.ciiva.com/689/eng-cd-1367073-k-689475.pdf?src-supplier=Digi-Key; ComponentLink7Description: https://datasheet.ciiva.com/689/eng-cd-1367073-k-689475.pdf?src-supplier=Digi-Key; ComponentLink8URL: https://datasheet.ciiva.com/1098/1650946-1098067.pdf?src-supplier=Element14; ComponentLink8Description: https://datasheet.ciiva.com/1098/1650946-1098067.pdf?src-supplier=Element14; ComponentLink9URL: https://datasheet.ciiva.com/3138/eng-cs-1773408-1-pluggable-ixo-solutions-sfp-0409-3138613.pdf?src-supplier=Avnet; ComponentLink9Description: https://datasheet.ciiva.com/3138/eng-cs-1773408-1-pluggable-ixo-solutions-sfp-0409-3138613.pdf?src-supplier=Avnet; ComponentLink10URL: https://datasheet.ciiva.com/3138/eng-cs-1773408-1-pluggable-ixo-solutions-sfp-0409-3138614.pdf?src-supplier=Avnet; ComponentLink10Description: https://datasheet.ciiva.com/3138/eng-cs-1773408-1-pluggable-ixo-solutions-sfp-0409-3138614.pdf?src-supplier=Avnet; ComponentLink11URL: https://datasheet.ciiva.com/689/eng-cd-1367073-k-689474.pdf?src-supplier=Digi-Key; ComponentLink11Description: https://datasheet.ciiva.com/689/eng-cd-1367073-k-689474.pdf?src-supplier=Digi-Key; ComponentLink12URL: https://datasheet.ciiva.com/46391/1794467-46391366.pdf?src-supplier=Element14; ComponentLink12Description: https://datasheet.ciiva.com/46391/1794467-46391366.pdf?src-supplier=Element14; ComponentLink13URL: https://datasheet.ciiva.com/28795/1759364-28795367.pdf?src-supplier=Element14; ComponentLink13Description: https://datasheet.ciiva.com/28795/1759364-28795367.pdf?src-supplier=Element14; ComponentLink14URL: https://datasheet.ciiva.com/30155/eng-cs-1773408-1-pluggable-ixo-solutions-sfp-0409-30155864.pdf?src-supplier=Onlinecomponents.com; ComponentLink14Description: https://datasheet.ciiva.com/30155/eng-cs-1773408-1-pluggable-ixo-solutions-sfp-0409-30155864.pdf?src-supplier=Onlinecomponents.com; ComponentLink15URL: https://datasheet.ciiva.com/22652/1650946-22652219.pdf?src-supplier=Farnell; ComponentLink15Description: https://datasheet.ciiva.com/22652/1650946-22652219.pdf?src-supplier=Farnell; ComponentLink16URL: https://datasheet.ciiva.com/25908/eng-cs-1773408-1-pluggable-ixo-solutions-sfp-0409-25908701.pdf?src-supplier=Avnet+Europe; ComponentLink16Description: https://datasheet.ciiva.com/25908/eng-cs-1773408-1-pluggable-ixo-solutions-sfp-0409-25908701.pdf?src-supplier=Avnet+Europe; ComponentLink17URL: https://datasheet.ciiva.com/16469/eng-cs-1773408-1-pluggable-ixo-solutions-sfp-0409-16469439.pdf?src-supplier=Avnet+Asia; ComponentLink17Description: https://datasheet.ciiva.com/16469/eng-cs-1773408-1-pluggable-ixo-solutions-sfp-0409-16469439.pdf?src-supplier=Avnet+Asia
footprint SFP_CON_x1_1367073-1 (CONN SFP RCPT 20POS SLD R/A SMD)
pins: 1 VEET (power), 2 TX_FAULT (out), 3 TX_DISABLE (in), 4 MOD_DEF2 (io), 5 MOD_DEF1 (in), 6 MOD_DEF0 (out), 7 RATE_SELECT (in), 8 LOS (out), 9 VEER (power), 10 VEER (power), 11 VEER (power), 12 RD- (out), 13 RD+ (out), 14 VEER (power), 15 VCCR (power), 16 VCCT (power), 17 VEET (power), 18 TD+ (in), 19 TD- (in), 20 VEET (power)

## Si569_VCXO
designator XO?, comment Si569
Part Description: 1GHz VCXO LVPECL Oscillator 2.5V, 3.3V Enable/Disable 6-SMD, No Lead; Manufacturer Part Number 1: 569AAAA000122BBG; Manufacturer: Silicon Labs; Supplier 1: Digi-Key; Supplier Part Number 1: 336-6063-ND
footprint Si569_VCXO
pins: 1 VC (in), 2 OE/FS (in), 3 GND, 4 CLK+ (out), 5 CLK- (out), 6 VDD (power), 7 SDA (io), 8 SCL (in)

## SI570
designator XO?  Assembly Info: NF
Part Description: XTAL OSC XO 300.0000MHZ LVDS SMD; Manufacturer: Silicon Labs; Manufacturer Part Number 1: 570BAB001614DGR; ComponentLink1URL: https://datasheet.ciiva.com/9287/si570-9287030.pdf?src-supplier=Avnet; ComponentLink1Description: https://datasheet.ciiva.com/9287/si570-9287030.pdf?src-supplier=Avnet; Supplier 1: Digi-Key; Supplier Part Number 1: 336-5615-1-ND; Stock 1: 82; Pricing 1: 250=23,87000 (EUR); RoHS: Yes
footprint Si570_Si571_CRYSTAL_8SMD
pins: 1 NC, 2 OE, 3 GND, 4 CLK+, 5 CLK-, 6 VDD, 7 SDA, 8 SCL

## SI4816BDY
designator IC?
Dual N-Channel 30V (D-S)  MOSFET; Manufacturer: Vishay Siliconix; Power - Max: 1W, 1.25W; Gate Charge (Qg) @ Vgs: 10nC @ 5V; Vgs(th) (Max) @ Id: 3V @ 250µA; Current - Continuous Drain (Id) @ 25°C: 5.8A, 8.2A; FET Feature: Logic Level Gate; FET Type: 2 N-Channel (Half Bridge); Supplier 1: Digi-Key; Package / Case: 8-SOIC (0.154", 3.90mm Width); Drain to Source Voltage (Vdss): 30V; Category: Discrete Semiconductor Products; Supplier Part Number 1: SI4816BDY-T1-E3TR-ND
footprint SO-8_N (SOIC, 8-Leads, Body 4.9x3.9mm, Pitch 1.27mm, IPC Medium Density)
pins: 1 G, 2 S, 3 S, 4 G, 5 D, 6 D, 7 D, 8 D

## SI4848DY_NMOS
designator VT?, comment SI4848DY
Part Description: N-Channel 150V 2.7A (Ta) 1.5W (Ta) Surface Mount 8-SO; Manufacturer: Vishay Siliconix; Manufacturer Part Number 1: SI4848DY-T1-E3; Drain to Source Voltage (Vdss): 150V; Continuous Drain Current (ID): 2.7A; Drain to Source Resistance: 85mR; Gate to Source Voltage (Vgs): 20V; Turn-Off Delay Time: 24ns; Turn-On Delay Time: 9ns; Power Dissipation: 1.5W; Nominal Vgs: 2V; Rise Time: 10ns; Number of Elements: 1; Element Configuration: Single; ComponentLink1URL: http://www.st.com/web/en/resource/technical/document/datasheet/CD00103832.pdf; ComponentLink1Description: http://www.st.com/web/en/resource/technical/document/datasheet/CD00103832.pdf; ComponentLink2URL: http://www.st.com/content/ccc/resource/technical/document/datasheet/00/75/48/c3/62/90/4a/32/CD00103832.pdf/files/CD00103832.pdf/jcr:content/translations/en.CD00103832.pdf; ComponentLink2Description: http://www.st.com/content/ccc/resource/technical/document/datasheet/00/75/48/c3/62/90/4a/32/CD00103832.pdf/files/CD00103832.pdf/jcr:content/translations/en.CD00103832.pdf; ComponentLink3URL: http://www.mouser.com/ds/2/389/CD00103832-114014.pdf; ComponentLink3Description: http://www.mouser.com/ds/2/389/CD00103832-114014.pdf; Supplier 1: Digi-Key; RoHS: Yes; Stock 1: 21882; Pricing 1: 1 = 1,69000, 10 = 1,49500, 100 = 1,18140, 500 = 0,91620, 1000 = 0,72331 (USD); Mount: Surface Mount; Case/Package: SOIC; Number of Pins: 8; Weight: 0.01787oz; Contact Plating: Matte,Tin; Min Operating Temperature: -55°C; Max Operating Temperature: 150°C; Packaging: Tape and Reel; Drain to Source Breakdown Voltage: 150V; Package Quantity: 2500; Rds On Max: 85mR; Max Power Dissipation: 1.5W; Fall Time: 10ns; Threshold Voltage: 2V; Number of Channels: 1; On-State Resistance: 85mR; Length: 5mm; Height: 1.55mm; Width: 4mm; REACH SVHC: Unknown; Lead Free: Lead Free; ComponentLink4URL: http://www.vishay.com/docs/71356/71356.pdf; ComponentLink4Description: http://www.vishay.com/docs/71356/71356.pdf; ComponentLink5URL: http://www.farnell.com/datasheets/1866379.pdf; ComponentLink5Description: http://www.farnell.com/datasheets/1866379.pdf; ComponentLink6URL: http://www.jameco.com/Jameco/Products/ProdDS/1073931.pdf; ComponentLink6Description: http://www.jameco.com/Jameco/Products/ProdDS/1073931.pdf; ComponentLink7URL: http://datasheet.iiic.cc/vishay_[siliconix]/SI4848DY-T1-E3.pdf; ComponentLink7Description: http://datasheet.iiic.cc/vishay_[siliconix]/SI4848DY-T1-E3.pdf; Supplier Part Number 1: SI4848DY-T1-E3CT-ND
footprint SI4848DY_NMOS_SO8 (SOIC, 8-Leads, Body 4,90x3,90mm, Pitch 1,27mm, IPC Medium Density)
pins: 1 S, 2 S, 3 S, 4 G, 5 D, 6 D, 7 D, 8 D

## Si5351C
designator IC?
Manufacturer Part Number: SI5351C-A-GM; Part Description: Clock Generator IC 200MHz 1 20-VFQFN Exposed Pad; Voltage - Supply: 1.71 V ~ 3.6 V; Input: Clock, Crystal; Ratio - Input:Output: 2:8; Frequency - Max: 160MHz; Supplier 1: Digi-Key; Supplier Device Package: 20-QFN (4x4); Type: Clock Generator; Package / Case: 20-VFQFN Exposed Pad; Category: Integrated Circuits (ICs); Supplier Part Number: SI5351C-A-GM-ND
footprint Si5351C_20QFN (QFN, 20-Leads, Body 4,00x4,00mm, Pitch 0,50mm, Thermal Pad 2,70x2,70mm, IPC Medium Density)
pins: 1 XA, 2 XB, 3 INTR, 4 SCL, 5 SDA, 6 CLKIN, 7 OEB, 8 CLK3, 9 CLK2, 10 VDDOB, 11 VDDOA, 12 CLK1, 13 CLK0, 14 VDDOD, 15 CLK7, 16 CLK6, 17 CLK5, 18 VDDOC, 19 CLK4, 20 VDD, 21 GND
text: 20-QFN

## Si7116DN_NMOS
designator VT?, comment Si7116DN
Part Description: N-Channel 40V 10.5A (Ta) 1.5W (Ta) Surface Mount PowerPAK® 1212-8; Manufacturer: Vishay Siliconix; Manufacturer Part Number 1: SI7116DN-T1-E3; Supplier Part Number 1: SI7116DN-T1-E3CT-ND; Supplier 1: Digi-Key
footprint Si7116DN_NMOS_PowerPak1212-8 (Footprint not found)
pins: 1 S, 2 S, 3 S, 4 G, 5 D, 6 D, 7 D, 8 D

## Si7149ADP_PMOS
designator VT?, comment Si7149ADP
Part Description: P-Channel 30V 50A (Tc) 5W (Ta), 48W (Tc) Surface Mount PowerPAK® SO-8; Manufacturer Part Number 1: SI7149ADP-T1-GE3; Manufacturer: Vishay Siliconix; Supplier 1: Digi-Key; Supplier Part Number 1: SI7149ADP-T1-GE3CT-ND
pins: D, G, S

## SI7216DN-T1-E3_dualNMOS
designator VT?, comment Si7216DN
Part Description: Mosfet Array 2 N-Channel (Dual) 40V 6A 20.8W Surface Mount PowerPAK® 1212-8 Dual; Manufacturer Part Number 1: SI7216DN-T1-E3; Manufacturer: Vishay Siliconix; Supplier Part Number 1: SI7216DN-T1-E3CT-ND; Supplier 1: Digi-Key
footprint SI7232DN-T1-GE3_dualNMOS
footprint SI7216DN-T1-E3_dualNMOS
pins: 1 S1, 2 G1, 3 S2, 4 G2, 5 D2, 6 D2, 7 D1, 8 D1

## SI7232DN-T1-GE3_dualNMOS
designator VT?, comment SI7232DN-T1-GE3
Part Description: Mosfet Array 2 N-Channel (Dual) 20V 25A 23W Surface Mount PowerPAK® 1212-8 Dual; Manufacturer: Vishay Siliconix; Rise Time: 10ns; Rds On Max: 16.4mR; Input Capacitance: 1.22nF; Drain to Source Voltage (Vdss): 20V; Continuous Drain Current (ID): 10A; Max Power Dissipation: 23W; Gate to Source Voltage (Vgs): 8V; Turn-Off Delay Time: 35ns; Number of Elements: 2; Power Dissipation: 2.6W; FET Type: 2 N-Channel; ComponentLink1URL: http://www.st.com/web/en/resource/technical/document/datasheet/CD00103832.pdf; ComponentLink1Description: http://www.st.com/web/en/resource/technical/document/datasheet/CD00103832.pdf; ComponentLink2URL: http://www.st.com/content/ccc/resource/technical/document/datasheet/00/75/48/c3/62/90/4a/32/CD00103832.pdf/files/CD00103832.pdf/jcr:content/translations/en.CD00103832.pdf; ComponentLink2Description: http://www.st.com/content/ccc/resource/technical/document/datasheet/00/75/48/c3/62/90/4a/32/CD00103832.pdf/files/CD00103832.pdf/jcr:content/translations/en.CD00103832.pdf; ComponentLink3URL: http://www.mouser.com/ds/2/389/CD00103832-114014.pdf; ComponentLink3Description: http://www.mouser.com/ds/2/389/CD00103832-114014.pdf; Supplier 1: Digi-Key; Manufacturer Part Number 1: SI7232DN-T1-GE3; Stock 1: 49; Pricing 1: 1 = 1,04000, 10 = 0,91200, 100 = 0,70360, 500 = 0,52118, 1000 = 0,41694 (USD); RoHS: Yes; Mount: Surface Mount; Number of Pins: 8; Contact Plating: Tin; Min Operating Temperature: -55°C; Max Operating Temperature: 150°C; Packaging: Tape and Reel; Package Quantity: 1; Drain to Source Breakdown Voltage: 20V; Drain to Source Resistance: 16.4mR; Fall Time: 10ns; Turn-On Delay Time: 10ns; Number of Channels: 2; Length: 3.05mm; Height: 1.04mm; Width: 3.05mm; Radiation Hardening: No; Lead Free: Lead Free; ComponentLink4URL: https://datasheet.ciiva.com/11159/si7232dn-11159493.pdf?src-supplier=Avnet; ComponentLink4Description: https://datasheet.ciiva.com/11159/si7232dn-11159493.pdf?src-supplier=Avnet; ComponentLink5URL: https://datasheet.ciiva.com/13057/si7232dn-279732-13057114.pdf?src-supplier=Mouser; ComponentLink5Description: https://datasheet.ciiva.com/13057/si7232dn-279732-13057114.pdf?src-supplier=Mouser; ComponentLink6URL: https://datasheet.ciiva.com/930/si7232dn-930182.pdf?src-supplier=Digi-Key; ComponentLink6Description: https://datasheet.ciiva.com/930/si7232dn-930182.pdf?src-supplier=Digi-Key; ComponentLink7URL: https://datasheet.ciiva.com/930/si7232dn-930183.pdf?src-supplier=Digi-Key; ComponentLink7Description: https://datasheet.ciiva.com/930/si7232dn-930183.pdf?src-supplier=Digi-Key; ComponentLink8URL: https://datasheet.ciiva.com/930/si7232dn-930184.pdf?src-supplier=Digi-Key; ComponentLink8Description: https://datasheet.ciiva.com/930/si7232dn-930184.pdf?src-supplier=Digi-Key; ComponentLink9URL: https://datasheet.ciiva.com/26135/si7232dn-26135816.pdf?src-supplier=Avnet+Europe; ComponentLink9Description: https://datasheet.ciiva.com/26135/si7232dn-26135816.pdf?src-supplier=Avnet+Europe; Supplier Part Number 1: SI7232DN-T1-GE3CT-ND
footprint SI7232DN-T1-GE3_dualNMOS
pins: 1 S1, 2 G1, 3 S2, 4 G2, 5 D2, 6 D2, 7 D1, 8 D1

## SI53340-B-GMR
designator IC14
Clock Fanout Buffer (Distribution), Multiplexer IC 2:4 1.25 GHz 16-VFQFN Exposed Pad; Manufacturer: Skyworks Solutions; Part Description: 2: 4 LVDS buffer (1.25GHz), 2: 1 input mux, (QFN16), footprint compatible: CDCLVP1204; Supplier 1: Digi-Key; Manufacturer Part Number 1: SI53340-B-GMR; Stock 1: 17153; Pricing 1: 1=3,29, 10=2,952, 25=2,7904, 100=2,4184, 250=2,29436, 500=2,05874 (USD); RoHS: No; Supplier Part Number 1: 336-4763-1-ND
pins: 1 GND, 2 CLK_SEL, 3 CLK1, 4 CLK1b, 5 VDD, 6 CLK0, 7 CLK0b, 8 NC, 9 Q0, 10 Q0b, 11 Q1, 12 Q1b, 13 Q2, 14 Q2b, 15 Q3, 16 Q3b, PAD GND

## SI53344
designator IC?
Manufacturer: Skyworks Solutions; Manufacturer Part Number 1: SI53344-B-GM; Part Description: Clock Fanout Buffer (Distribution), Multiplexer IC 2:10 1.25 GHz 32-VFQFN Exposed Pad; Supplier 1: Digi-Key; Supplier Part Number 1: 336-3842-ND; Stock 1: 4927; Pricing 1: 1=4,47000, 10=4,01100, 25=3,79200, 80=3,28650, 230=3,11800, 490=2,79776, 980=2,38500 (USD); RoHS: No
footprint SI53344-B-GM_32-VFQFN (Footprint not found)
pins: 1 VDD, 2 CLK_SEL, 3 CLK0, 4 CLK0b, 5 NC, 6 CLK1, 7 CLK1b, 8 GND, 9 VDD, 10 Q9b, 11 Q9, 12 Q8b, 13 Q8, 14 Q7b, 15 Q7, 16 VDD, 17 Q6b, 18 Q6, 19 Q5b, 20 Q5, 21 Q4b, 22 Q4, 23 Q3b, 24 Q3, 25 VDD, 26 Q2b, 27 Q2, 28 Q1b, 29 Q1, 30 Q0b, 31 Q0, 32 VDD, PAD GND

## SKY13286-359LF_RF_switch
designator IC?, comment SKY13286
Part Description: RF Switch IC GSM, ISM, PCS, WCDMA SPDT 6 GHz 50Ohm 16-QFN (4x4); Manufacturer: Skyworks Solutions; Manufacturer Part Number 1: SKY13286-359LF; Frequency: 6GHz; Impedance: 50R; Insertion Loss: 1.8dB; Turn-Off Delay Time: 50ns; Throw Configuration: SPDT; IIP3: 46dBm; Operating Frequency: 100 MHz to 6 GHz; Number of Switches: 3; Min Supply Voltage: 2.7V; Max Supply Voltage: 5.5V; P1dB: 30dBm; Min Frequency: 100MHz; Supplier 1: Digi-Key; Supplier Part Number 1: 863-1049-1-ND; Stock 1: 60609; Pricing 1: 1=3,45000, 10=3,09600, 25=2,92720, 100=2,53700, 250=2,40684, 500=2,15966, 1000=1,95150 (USD); RoHS: Yes; Mount: Surface Mount; Case/Package: QFN; Number of Pins: 16; Contact Plating: Tin,Matte; Min Operating Temperature: -40°C; Max Operating Temperature: 95°C; Package Quantity: 1; Packaging: Tape and Reel; Turn-On Delay Time: 50ns; Max Frequency: 6GHz; Series: -; Termination: SMD/SMT; Radiation Hardening: No; RoHS Compliant: Yes; REACH SVHC: Unknown; ComponentLink1URL: https://datasheet.ciiva.com/15100/getdatasheetpartid-656005-15100455.pdf?src-supplier=Verical; ComponentLink1Description: https://datasheet.ciiva.com/15100/getdatasheetpartid-656005-15100455.pdf?src-supplier=Verical; ComponentLink2URL: https://datasheet.ciiva.com/12080/200570h-20342-12080171.pdf?src-supplier=Mouser; ComponentLink2Description: https://datasheet.ciiva.com/12080/200570h-20342-12080171.pdf?src-supplier=Mouser
footprint SKY13286-359LF_RF_switch_QFN16
pins: 1 VDD, 2 VCTL, 3 RFC, 4 GND, 5 GND, 6 GND, 7 GND, 8 GND, 9 J2, 10 GND, 11 GND, 12 J1, 13 GND, 14 GND, 15 GND, 16 GND

## SKY13323
designator IC?
SKY13323-378LF: 0.1-3.0 GHz GaAs SPDT Switch; Manufacturer: Skyworks Solutions Inc.; Frequency - Lower: 100MHz; P1dB: 27dBm (typ) IP1dB; Isolation @ Frequency: 27dB @ 3GHz (typ); RF Type: 802.11b/g; Impedance: 50 Ohm; IIP3: 50dBm (typ); Topology: Reflective; Insertion Loss @ Frequency: 0.35dB @ 3GHz; Frequency - Upper: 3GHz; Supplier 1: Digi-Key; Operating Temperature: -40°C ~ 85°C; RoHS: RoHS Compliant; Package / Case: 6-XFDFN Exposed Pad; Circuit: SPDT; Features: -; Supplier Device Package: 6-MLPD (1x1); Category: RF/IF and RFID; Packaging: Cut Tape (CT); Manufacturer Part Number 1: SKY13323-378LF; Supplier Part Number 1: 683-1334-1-ND
footprint SKY13323-378LF (SKY13323-378LF RF switch)
pins: 1 RF OUT1 (out), 2 GND, 3 RF OUT2 (out), 4 VCTL2 (in), 5 RF IN (in), 6 VCTL1 (in)

## SKY13330-397LF_RF_SW
designator IC?, comment SKY13330-397LF
Part Description: RF Switch IC W-CDMA SPDT 6 GHz 50Ohm 12-QFN (2x2); Manufacturer: Skyworks Solutions; Frequency: 100MHz; Throw Configuration: SPDT; P1dB: 39dBm; Impedance: 50R; Insertion Loss: 0.65dB; Turn-Off Delay Time: 1.6us; Max Frequency: 6GHz; Supplier 1: Digi-Key; Supplier Part Number 1: 863-1643-1-ND; Manufacturer Part Number 1: SKY13330-397LF; Stock 1: 596826; Pricing 1: 1=0,99000, 10=0,88800, 25=0,84280, 100=0,69230, 250=0,64716, 500=0,57190, 1000=0,45150 (USD); RoHS: Yes; Mount: Surface Mount; Case/Package: QFN; Number of Pins: 12; Contact Plating: Tin,Matte; Weight: 0.000776oz; Min Operating Temperature: -40°C; Max Operating Temperature: 85°C; Packaging: Tape and Reel; Package Quantity: 3000; Turn-On Delay Time: 1.6us; Radiation Hardening: No; ComponentLink1URL: https://datasheet.ciiva.com/15100/getdatasheetpartid-656010-15100460.pdf?src-supplier=Verical; ComponentLink1Description: https://datasheet.ciiva.com/15100/getdatasheetpartid-656010-15100460.pdf?src-supplier=Verical
footprint SKY13330-397LF_RF_SW_QFN12
pins: 1 GND, 2 RF1, 3 GND, 4 GND, 5 RF3, 6 GND, 7 CTRL, 8 EN, 9 VBAT, 10 GND, 11 RF2, 12 GND, EP GND

## SKY13345-368LF
designator IC?
Part Description: RF Switch IC 802.11b/g Bluetooth SP3T 3.5GHz 50 Ohm 12-QFN (2x2); Manufacturer: Skyworks Solutions Inc.; Frequency - Lower: 100MHz; Isolation @ Frequency: 35dB @ 2.5GHz (typ); Insertion Loss @ Frequency: 0.55dB @ 2.5GHz; IIP3: 57dBm (typ); Topology: Reflective; Circuit: SP3T; Impedance: 50 Ohm; Voltage - Supply: 2.5 V ~ 5.5 V; RF Type: 802.11b/g Bluetooth; Supplier 1: Digi-Key; Manufacturer Part Number: SKY13345-368LF; RoHS: RoHS Compliant; Category: RF/IF and RFID; Stock 1: 8313; Pricing 1: 1=1.01, 10=0.901, 100=0.7022, 500=0.58006, 1000=0.45794 (USD); Packaging: Cut Tape (CT); Part Status: Active; P1dB: -; Features: DC Blocked; Operating Temperature: -40°C ~ 85°C; Package / Case: 12-UFQFN Exposed Pad; Supplier Device Package: 12-QFN (2x2); ComponentLink1URL: http://www.skyworksinc.com/uploads/documents/201194D.pdf; ComponentLink1Description: http://www.skyworksinc.com/uploads/documents/201194D.pdf; Supplier Part Number 1: 863-1450-1-ND
footprint SKY13345-368LF
pins: 1 J1 (io), 2 GND, 3 J3 (io), 4 V1 (in), 5 V2 (in), 6 V3 (in), 7 VDD (power), 8 GND, 9 J2 (io), 10 GND, 11 RFC (io), 12 N/C (GND), PAD

## SKY13348
designator IC?
Part Description: RF Switch IC 802.16 WiMAX SPDT 6GHz 50 Ohm 6-MLPD (1.5x1.5); Manufacturer: Skyworks Solutions Inc.; Manufacturer Part Number: SKY13348-374LF; Frequency - Lower: 500MHz; Isolation @ Frequency: 24dB @ 5.85GHz (typ); Insertion Loss @ Frequency: 1dB @ 5.85GHz; IIP3: 57dBm (typ); Topology: Absorptive; Circuit: SPDT; P1dB: 37dBm (typ) IP1dB; Impedance: 50 Ohm; RF Type: 802.16 WiMAX; Supplier 1: Digi-Key; RoHS: RoHS Compliant; Category: RF/IF and RFID; Stock 1: 20721; Pricing 1: 1=0.96, 10=0.857, 100=0.6684, 500=0.55216, 1000=0.43592 (USD); Packaging: Digi-Reel®; Part Status: Active; Features: -; Operating Temperature: -40°C ~ 85°C; Voltage - Supply: -; Package / Case: 6-XFDFN Exposed Pad; Supplier Device Package: 6-MLPD (1.5x1.5); ComponentLink1URL: http://www.skyworksinc.com/uploads/documents/SKY13348_374LF_201214E.pdf; ComponentLink1Description: http://www.skyworksinc.com/uploads/documents/SKY13348_374LF_201214E.pdf; Supplier Part Number 1: 863-1335-6-ND
footprint SKY13348-374LF (SKY13348-374LF RF switch)
pins: 1 V1 (in), 2 RFC (io), 3 V2 (in), 4 J2 (io), 5 GND, 6 J1 (io), PAD

## SKY13373-460LF_SP3T_switch
designator IC?, comment SKY13373
RF Switch ICs .1-6.0GHz SP3T IL .45dB @ 2.5GHz; Manufacturer: Skyworks Solutions; Manufacturer Part Number 1: SKY13373-460LF; Frequency: 100MHz; Impedance: 50R; Insertion Loss: 0.8dB; Turn-Off Delay Time: 1500ns; IIP3: 70dBm; Supplier 1: Mouser; Supplier Part Number 1: 873-SKY13373-460LF; Stock 1: 6938; Pricing 1: 1=1,20000, 10=1,02000, 50=1,02000, 100=0,78200, 500=0,69100, 1000=0,54600, 3000=0,49400, 6000=0,47000, 9000=0,45200, 10000=0,45200, 24000=0,43800 (USD); RoHS: Yes; Case/Package: QFN; Min Operating Temperature: -40°C; Max Operating Temperature: 85°C; Packaging: Tape and Reel; Package Quantity: 3000; Turn-On Delay Time: 1500ns; Throw Configuration: SP3T; ComponentLink1URL: https://datasheet.ciiva.com/12080/201264k-37461-12080185.pdf?src-supplier=Mouser; ComponentLink1Description: https://datasheet.ciiva.com/12080/201264k-37461-12080185.pdf?src-supplier=Mouser; Part Description: RF Switch ICs .1-6.0GHz SP3T IL .45dB @ 2.5GHz
pins: 1 J1 (io), 2 GND, 3 J3 (io), 4 V1 (in), 5 V2 (in), 6 VDD (power), 7 GND, 8 GND, 9 J2 (io), 10 GND, 11 RFC (io), 12 N/C (GND), PAD